# Altium footprint library Connectors.PcbLib: 6 footprints
Each footprint in its own frame and in the unit in brackets; x right, y up, seen from the top. Pads: shape width x height; smd on the part's side, far side on the other; paste and mask are expansions set on the pad; w line width, h text height; cw(c..) or ccw(c..) is an arc to the next point about the centre after c.
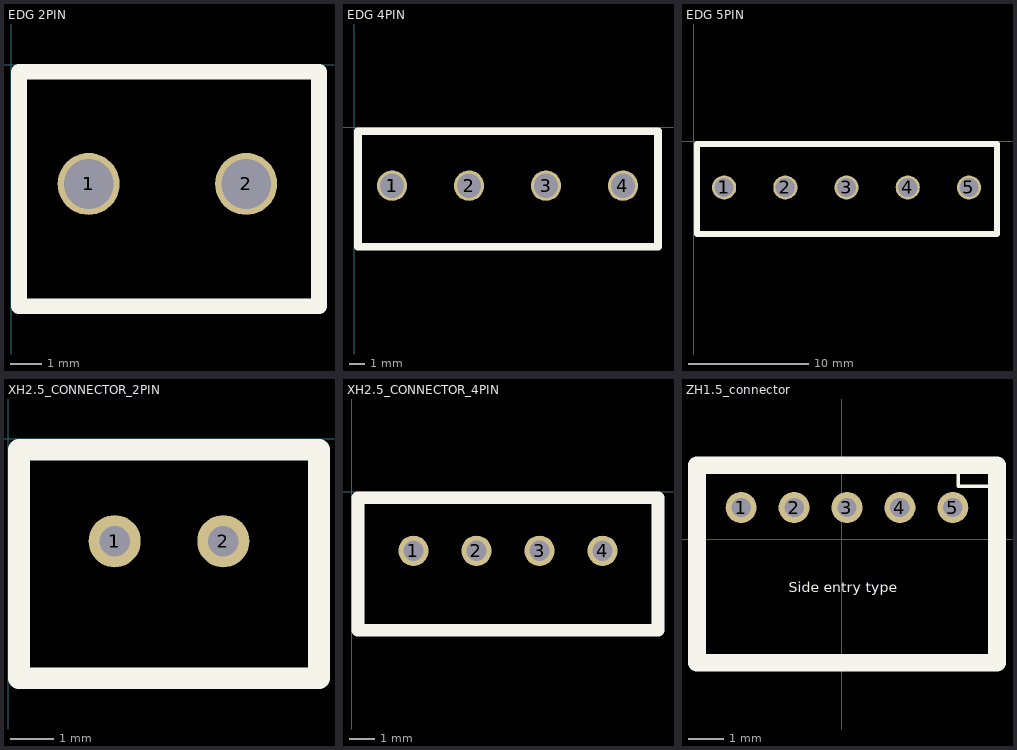
[diagram p0: the footprints below, top view; thin cyan lines are the x and y axes]

## EDG 2PIN [mm] "Screw Terminal block 5mm 2-way"
pads (3):
  round 2 hole 1.6: 1(2.5,-3.85) 1(2.5,-3.85) 2(7.58,-3.85)
Top Overlay:
  lines w0.5: 0.253,-7.787 9.928,-7.787 9.928,-0.237 0.253,-0.237 0.253,-7.787
3D body "User Library-2EDG-5_08-02P.step": height 22.08, standoff -3, extent 0.003,-15.612 10.163,-0.002

## EDG 4PIN [mm] "Screw Terminal block 5mm 4-way"
pads (5):
  round 2 hole 1.6: 1(2.5,-3.85) 1(2.5,-3.85) 2(7.58,-3.85) 3(12.66,-3.85) 4(17.74,-3.85)
Top Overlay:
  lines w0.5: 0.25,-7.875 20.05,-7.875 20.05,-0.263 0.25,-0.263 0.25,-7.875
3D body "User Library-2EDG-5_08-04P.step": height 22.08, standoff -3, extent 0,-15.625 20.32,-0.015

## EDG 5PIN [mm] "Screw Terminal block 5mm 5-way"
pads (6):
  round 2 hole 1.6: 1(2.5,-3.85) 1(2.5,-3.85) 2(7.58,-3.85) 3(12.66,-3.85) 4(17.74,-3.85) 5(22.82,-3.85)
Top Overlay:
  lines w0.5: 0.25,-7.7 25.15,-7.7 25.15,-0.25 0.25,-0.25 0.25,-7.7
3D body "User Library-2EDG-5_08-05P.step": height 22.08, standoff -3, extent 0,-15.61 25.4,0

## XH2.5_CONNECTOR_2PIN [mm] "JST XH2.5mm top entry type connector 4 PINS"
pads (3):
  round 1.2 hole 0.7: 1(2.45,-2.35) 1(2.45,-2.35) 2(4.95,-2.35)
Top Overlay:
  lines w0.5: 0.25,-5.5 7.15,-5.5 7.15,-0.25 0.25,-0.25 0.25,-5.5
3D body "User Library-JST B2B-XH-A.step": height 8, standoff -2.4, extent 0,-5.75 7.4,0

## XH2.5_CONNECTOR_4PIN [mm] "JST XH2.5mm top entry type connector 4 PINS"
pads (5):
  round 1.2 hole 0.7: 1(2.45,-2.35)
  round 1.2 hole 0.8: 2(4.95,-2.35) 3(7.45,-2.35) 4(9.95,-2.35) ""(2.45,-2.35)
Top Overlay:
  lines w0.5: 0.25,-5.5 12.15,-5.5 12.15,-0.25 0.25,-0.25 0.25,-5.5
3D body "User Library-jst-b4b-xh-a-1.step": height 8, standoff -2.4, extent 0,-5.75 12.4,0

## ZH1.5_connector [mm] "JST ZH1.5mm side entry type connector 5 PINS"
pads (5):
  round 0.875 hole 0.55: 1(-2.85,0.9) 2(-1.35,0.9) 3(0.15,0.9) 4(1.65,0.9) 5(3.15,0.9)
Top Overlay:
  lines w0.1: 3.3,2 3.3,1.5 ; 4.2,1.5 3.3,1.5 ; 3.3,1.5 3.3,1.5
  lines w0.5: -4.1,-3.5 -0.475,-3.5 0.775,-3.5 4.4,-3.5 4.4,2.1 -4.1,2.1 -4.1,-3.5
  text "Side entry type" at -1.5,-1.606 h0.5
3D body "Conn_JST_S5B-ZR_LF_SN_eec.STEP": height 4.2, standoff -2.2, extent -4.35,-3.696 4.65,2.304